# Altium footprint library Header_FCI_20021221-00008T4LF_8-pos.PcbLib: 1 footprints
Each footprint in its own frame and in the unit in brackets; x right, y up, seen from the top. Pads: shape width x height; smd on the part's side, far side on the other; paste and mask are expansions set on the pad; w line width, h text height; cw(c..) or ccw(c..) is an arc to the next point about the centre after c.
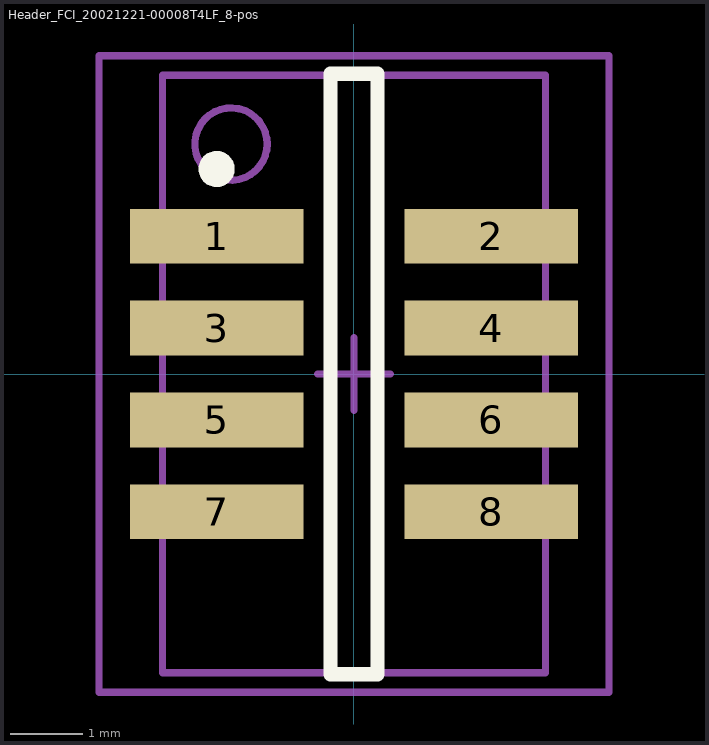
[diagram p0: the footprint, top view; thin cyan lines are the x and y axes]

## Header_FCI_20021221-00008T4LF_8-pos [mm]
height 5.6
pads (8):
  rect 2.4x0.76 smd: 1(-1.9,1.905) 2(1.9,1.905) 3(-1.9,0.635) 4(1.9,0.635) 5(-1.9,-0.635) 6(1.9,-0.635) 7(-1.9,-1.905) 8(1.9,-1.905)
Top Overlay:
  circle w0.25: c-1.9,2.835 r0.125
  lines w0.2: -0.325,-4.15 0.325,-4.15 0.325,4.15 -0.325,4.15 -0.325,-4.15
Mechanical 13:
  circle w0.1: c-1.7,3.18 r0.5
  lines w0.1: -2.65,-4.13 2.65,-4.13 2.65,4.13 -2.65,4.13 -2.65,-4.13
Mechanical 15:
  lines w0.1: -0.5,0 0.5,0 ; 0,-0.5 0,0.5 ; -3.525,-4.4 3.525,-4.4 3.525,4.4 -3.525,4.4 -3.525,-4.4
3D body: height 5.6, standoff 0, extent -2.65,-4.13 2.65,4.13